# Altium schematic symbol library USBUF02W6.SchLib: 1 symbol
Pins are listed as number, name and electrical type; pins without a type are passive.

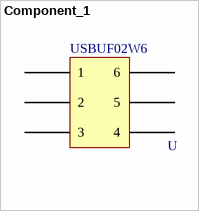
[diagram p0: symbol Component_1]

## Component_1
designator U
footprint SOT65P210X110-6N
pins: ?1 1, ?2 2, ?3 3, ?4 4, ?5 5, ?6 6
text: USBUF02W6